# Altium footprint library thermostat.PcbLib: 95 footprints (part 3 of 6)
Each footprint in its own frame and in the unit in brackets; x right, y up, seen from the top. Pads: shape width x height; smd on the part's side, far side on the other; paste and mask are expansions set on the pad; w line width, h text height; cw(c..) or ccw(c..) is an arc to the next point about the centre after c.
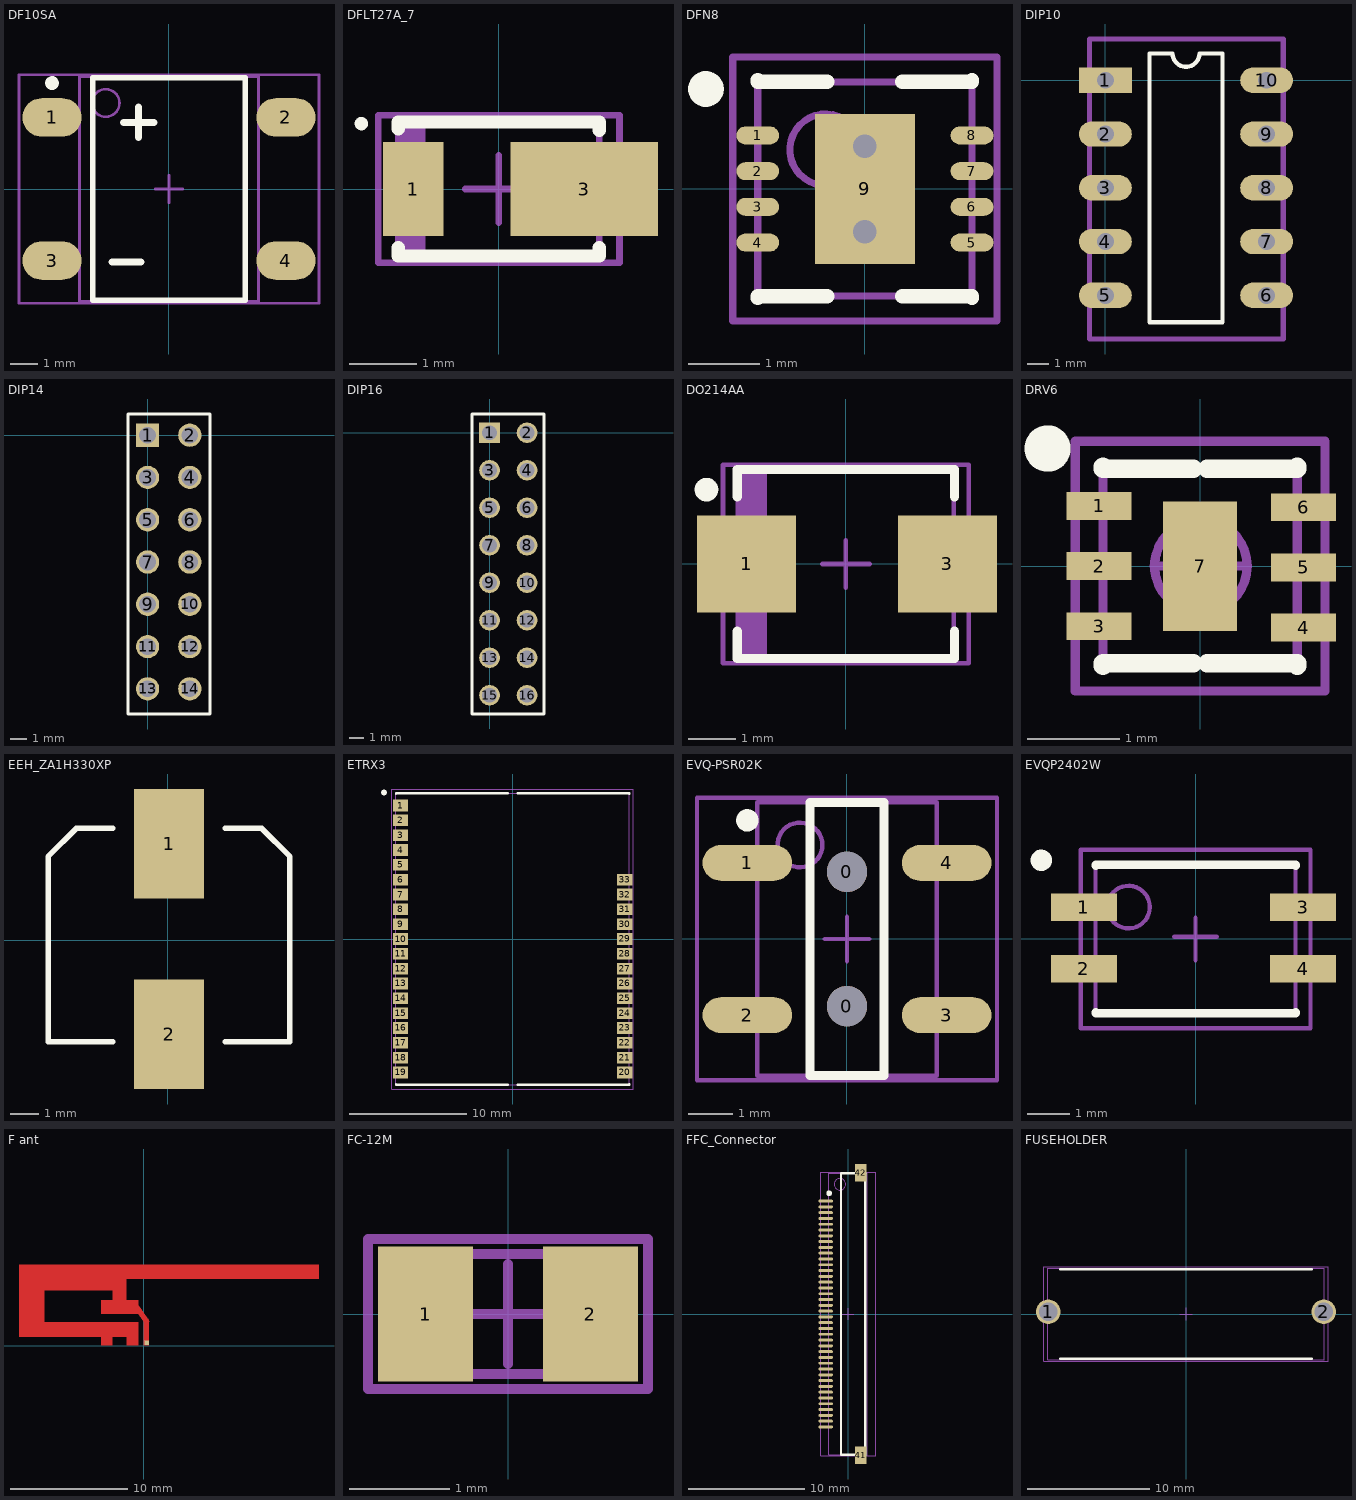
[diagram p2: the footprints below, top view; thin cyan lines are the x and y axes]

## DF10SA [mm] "SOP, 4-Leads, Body 8,1x6,5mm (max), Pitch 5,20mm, IPC High Density"
height 3.3
pads (4):
  oval 2.15x1.4 smd: 1(-4.25,2.6) 2(4.25,2.6) 3(-4.25,-2.6) 4(4.25,-2.6)
Top Overlay:
  circle w0.25: c-4.25,3.85 r0.125
  lines w0.2: -2.775,-4.05 2.775,-4.05 2.775,4.05 -2.775,4.05 -2.775,-4.05
  lines w0.254: -2.075,-2.65 -1.025,-2.65 ; -1.65,2.425 -0.55,2.425 ; -1.1,1.875 -1.1,2.975
Mechanical 13:
  circle w0.1: c-2.3,3.125 r0.5
  lines w0.1: -3.25,-4.075 3.25,-4.075 3.25,4.075 -3.25,4.075 -3.25,-4.075
Mechanical 15:
  lines w0.1: -0.5,0 0.5,0 ; 0,-0.5 0,0.5 ; -5.45,-4.15 5.45,-4.15 5.45,4.15 -5.45,4.15 -5.45,-4.15
3D body: height 3.3, standoff 0.2, extent -3.25,-4.075 3.25,4.075

## DFLT27A_7 [mm] "Molded Diode, 2-Leads, Body 2,8x1,8mm, IPC High Density"
height 1
pads (2):
  rect 0.9x1.4 smd: 1(-1.275,0)
  rect 2.2x1.4 smd: 3(1.275,0)
Top Overlay:
  circle w0.1: c-2.05,0.975 r0.05
  lines w0.2: -1.5,-0.875 -1.5,-1 1.5,-1 1.5,-0.875 ; -1.5,0.9 -1.5,1 1.5,1 1.5,0.875
Mechanical 13:
  rectangle: -1.5,-0.965 -1.097,0.965
  lines w0.1: -1.5,-0.965 -1.5,0.965 1.5,0.965 1.5,-0.965 -1.5,-0.965
Mechanical 15:
  lines w0.1: -0.5,0 0.5,0 ; 0,-0.5 0,0.5 ; -1.8,-1.1 -1.8,1.1 1.8,1.1 1.8,-1.1 -1.8,-1.1
3D body: height 1, standoff 0, extent -1.5,-0.965 1.5,0.965

## DFN8 [mm]
height 0.9
pads (9):
  oval 0.6x0.25 smd: 1(-1.5,0.75) 2(-1.5,0.25) 3(-1.5,-0.25) 4(-1.5,-0.75) 5(1.5,-0.75) 6(1.5,-0.25) 7(1.5,0.25) 8(1.5,0.75)
  rect 1.4x2.1 smd: 9(0,0)
via 0,0.6 diameter 0.66 hole 0.33
via 0,-0.6 diameter 0.66 hole 0.33
Top Overlay:
  circle w0.25: c-2.225,1.4 r0.125
  lines w0.2: -1.5,-1.525 -1.5,-1.5 -0.525,-1.5 ; -1.5,1.525 -1.5,1.5 -0.525,1.5 ; 0.525,-1.5 1.5,-1.5 1.5,-1.525 ; 0.525,1.5 1.5,1.5 1.5,1.525
Mechanical 13:
  circle w0.1: c-0.55,0.55 r0.5
  lines w0.1: -1.5,-1.5 -1.5,1.5 1.5,1.5 1.5,-1.5 -1.5,-1.5
Mechanical 15:
  lines w0.1: -0.5,0 0.5,0 ; 0,-0.5 0,0.5 ; -1.85,-1.85 -1.85,1.85 1.85,1.85 1.85,-1.85 -1.85,-1.85
3D body: height 0.9, standoff 0.1, extent -1.5,-1.5 1.5,1.5

## DIP10 [mm]
pads (10):
  rect 2.5x1.2 hole 0.8: 1(0,0)
  oval 2.5x1.2 hole 0.8: 2(0,-2.54) 3(0,-5.08) 4(0,-7.62) 5(0,-10.16) 6(7.62,-10.16) 7(7.62,-7.62) 8(7.62,-5.08) 9(7.62,-2.54) 10(7.62,0)
Top Overlay:
  lines w0.2: 2.085,-11.43 5.535,-11.43 5.535,1.27 4.445,1.27 cw(c3.81,1.27) 3.175,1.27 2.085,1.27 2.085,-11.43
Mechanical 15:
  lines w0.254: 8.375,-12.225 -0.75,-12.225 -0.75,1.95 8.4,1.95 8.4,-12.225
3D body: height 5, standoff 0.1, extent -0.75,-12.225 8.4,1.95

## DIP14 [mm]
height 8
pads (14):
  rect 1.4x1.4 hole 1: 1(0,0)
  round 1.4 hole 1: 2(2.54,0) 3(0,-2.54) 4(2.54,-2.54) 5(0,-5.08) 6(2.54,-5.08) 7(0,-7.62) 8(2.54,-7.62) 9(0,-10.16) 10(2.54,-10.16) 11(0,-12.7) 12(2.54,-12.7) 13(0,-15.24) 14(2.54,-15.24)
Top Overlay:
  lines w0.2: 0.635,1.27 3.75,1.27 3.75,-16.75 -1.175,-16.75 -1.175,1.27 1.905,1.27
3D body: height 8.64, standoff 0.1, extent -0.744,-16.35 3.25,1

## DIP16 [mm]
height 8
pads (16):
  rect 1.4x1.4 hole 1: 1(0,0)
  round 1.4 hole 1: 2(2.54,0) 3(0,-2.54) 4(2.54,-2.54) 5(0,-5.08) 6(2.54,-5.08) 7(0,-7.62) 8(2.54,-7.62) 9(0,-10.16) 10(2.54,-10.16) 11(0,-12.7) 12(2.54,-12.7) 13(0,-15.24) 14(2.54,-15.24) 15(0,-17.78) 16(2.54,-17.78)
Top Overlay:
  lines w0.2: 0.635,1.27 3.675,1.27 3.675,-19.05 -1.175,-19.05 -1.175,1.27 1.905,1.27
3D body: height 8.64, standoff 0.1, extent -0.75,-18.75 3.25,1

## DO214AA [mm] "Molded Diode, 2-Leads, Body 4,3x3,6mm, IPC High Density"
height 2.44
pads (2):
  rect 2.1x2.05 smd: 1(-2.1,0) 3(2.15,0)
Top Overlay:
  circle w0.25: c-2.95,1.575 r0.125
  lines w0.2: -2.3,-1.425 -2.3,-2 2.3,-2 2.3,-1.425 ; -2.3,1.425 -2.3,2 2.3,2 2.3,1.425
Mechanical 13:
  rectangle: -2.285,-1.97 -1.67,1.97
  lines w0.1: -2.285,-1.97 -2.285,1.97 2.285,1.97 2.285,-1.97 -2.285,-1.97
Mechanical 15:
  lines w0.1: -0.5,0 0.5,0 ; 0,-0.5 0,0.5 ; -2.6,-2.1 -2.6,2.1 2.6,2.1 2.6,-2.1 -2.6,-2.1
3D body: height 2.44, standoff 0, extent -2.285,-1.97 2.285,1.97

## DRV6 [mm] "DRV6, 6-Leads, Body 2,1x2,1mm (max), Pitch 0,65mm, IPC High Density"
height 0.8
pads (7):
  rect 0.7x0.3 smd: 1(-1.092,0.65) 2(-1.092,0) 3(-1.092,-0.65) 4(1.118,-0.665) 5(1.118,-0.015) 6(1.118,0.635)
  rect 0.8x1.4 smd: 7(0,0)
Top Overlay:
  circle w0.25: c-1.649,1.27 r0.125
  lines w0.2: -1.05,-1.075 -1.05,-1.05 -0.075,-1.05 ; -1.05,1.075 -1.05,1.05 -0.075,1.05 ; 0.075,-1.05 1.05,-1.05 1.05,-1.075 ; 0.075,1.05 1.05,1.05 1.05,1.075
Mechanical 13:
  circle w0.1: c0.008,0 r0.5
  lines w0.1: -1.05,-1.05 -1.05,1.05 1.05,1.05 1.05,-1.05 -1.05,-1.05
Mechanical 15:
  lines w0.1: -0.5,0 0.5,0 ; 0,-0.5 0,0.5 ; -1.35,-1.35 -1.35,1.35 1.35,1.35 1.35,-1.35 -1.35,-1.35
3D body: height 0.8, standoff 0.01, extent -1.05,-1.05 1.05,1.05

## EEH_ZA1H330XP [mm] "CAP ALUM 33UF 50V 20% SMD"
height 8
pads (2):
  rect 2.5x3.9 smd: 1(0.05,3.425) 2(0.05,-3.35)
Top Overlay:
  lines w0.2: -1.95,-3.625 -4.25,-3.625 -4.25,2.975 ; -1.95,3.975 -3.25,3.975 -4.25,2.975 ; 2.05,-3.625 4.35,-3.625 4.35,2.975 ; 2.05,3.975 3.35,3.975 4.35,2.975 ; -4.25,2.975 -4.25,2.975 ; 4.35,2.975 4.35,2.975
3D body: height 10.3, standoff -0.2, extent -4.2,-4.773 4.3,4.927

## ETRX3 [mm] "ETRX3, 38-Leads, Body 25,0x20,0mm (max), Pitch 1,27mm, IPC High Density"
height 6
pads (33):
  rect 1.3x1 smd: 1(-9.6,11.43) 2(-9.6,10.16) 3(-9.6,8.89) 4(-9.6,7.62) 5(-9.6,6.35) 6(-9.6,5.08) 7(-9.6,3.81) 8(-9.6,2.54) 9(-9.6,1.27) 10(-9.6,0) 11(-9.6,-1.27) 12(-9.6,-2.54) 13(-9.6,-3.81) 14(-9.6,-5.08) 15(-9.6,-6.35) 16(-9.6,-7.62) 17(-9.6,-8.89) 18(-9.6,-10.16) 19(-9.6,-11.43) 20(9.6,-11.43) 21(9.6,-10.16) 22(9.6,-8.89) 23(9.6,-7.62) 24(9.6,-6.35) 25(9.6,-5.08) 26(9.6,-3.81) 27(9.6,-2.54) 28(9.6,-1.27) 29(9.6,0) 30(9.6,1.27) 31(9.6,2.54) 32(9.6,3.81) 33(9.6,5.08)
Top Overlay:
  circle w0.25: c-11.025,12.55 r0.125
  lines w0.2: -10,-12.425 -10,-12.5 -0.425,-12.5 ; -10,12.425 -10,12.5 -0.425,12.5 ; 0.425,-12.5 10,-12.5 10,-12.425 ; 0.425,12.5 10,12.5 10,12.425
Mechanical 13:
  lines w0.1: -10,-12.5 10,-12.5 10,12.5 -10,12.5 -10,-12.5
Mechanical 15:
  lines w0.1: -10.35,-12.85 10.35,-12.85 10.35,12.85 -10.35,12.85 -10.35,-12.85
3D body: height 6, standoff 0.1, extent -10,-12.5 10,12.5

## EVQ-PSR02K [mm] "SWITCH TACTILE SPST-NO 0.05A 12V"
height 1.8
pads (6):
  round 0.9 hole 0.9: 0(0,-1.5) 0(0,1.5)
  oval 2x0.8 smd: 1(-2.225,1.7) 2(-2.225,-1.7) 3(2.225,-1.7) 4(2.225,1.7)
Top Overlay:
  circle w0.25: c-2.225,2.65 r0.125
  lines w0.2: -0.825,-3.05 -0.825,3.05 0.825,3.05 0.825,-3.05 -0.825,-3.05
Mechanical 13:
  circle w0.1: c-1.05,2.1 r0.5
  lines w0.1: -2,-3.05 -2,3.05 2,3.05 2,-3.05 -2,-3.05
Mechanical 15:
  lines w0.1: -0.5,0 0.5,0 ; 0,-0.5 0,0.5 ; -3.35,-3.15 -3.35,3.15 3.35,3.15 3.35,-3.15 -3.35,-3.15
3D body: height 1.8, standoff 0.2, extent -2,-3.05 2,3.05

## EVQP2402W [mm] "QFN, 4-Leads, Body 3,5x4,7mm (max), Pitch 1,70mm, IPC High Density"
height 2.5
pads (4):
  rect 1.55x0.65 smd: 1(-2.625,0.75) 2(-2.625,-0.7) 3(2.525,0.75) 4(2.525,-0.7)
Top Overlay:
  circle w0.25: c-3.625,1.85 r0.125
  lines w0.2: -2.35,-1.725 -2.35,-1.75 0.275,-1.75 ; -2.35,1.725 -2.35,1.75 0.275,1.75 ; -0.275,-1.75 2.35,-1.75 2.35,-1.725 ; -0.275,1.75 2.35,1.75 2.35,1.725
Mechanical 13:
  circle w0.1: c-1.575,0.75 r0.5
  lines w0.1: -2.35,-1.75 2.35,-1.75 2.35,1.75 -2.35,1.75 -2.35,-1.75
Mechanical 15:
  lines w0.1: -0.5,0.05 0.5,0.05 ; 0,-0.5 0,0.5 ; -2.7,-2.1 2.7,-2.1 2.7,2.1 -2.7,2.1 -2.7,-2.1
3D body: height 2.5, standoff 0.1, extent -2.35,-1.75 2.35,1.75

## F ant [mm] "F antenna 2.4Ghz"
pads (2):
  rect 0.4x0.4 smd paste+0: 1(0.254,0.254)
  rect 3x0.01 smd: 2(-2.032,0)
Top Layer:
  region: 0,2.03 0.379,2.291 -0.577,3.681 -0.956,3.421
  rectangle: 0,0 0.46,2.03
  rectangle: -3.65,0.74 -0.45,2.03
  rectangle: -3.65,2.69 -0.45,3.9
  rectangle: -10.63,0.74 -8.45,4.7
  rectangle: -10.63,5.7 14.95,6.91
  rectangle: -10.63,4.7 -1.45,5.7
  rectangle: -8.45,0.74 -3.575,2.03
  rectangle: -2.65,3.9 -1.45,4.7
  rectangle: -1.45,0 -0.45,0.74
  rectangle: -3.65,0 -2.65,0.74
  region: 0,2.03 0.46,2.03 0.379,2.291

## FC-12M [mm]
height 0.6
pads (2):
  rect 0.95x1.35 smd: 1(-0.825,0) 2(0.825,0)
Mechanical 13:
  lines w0.1: -1.025,-0.6 1.025,-0.6 1.025,0.6 -1.025,0.6 -1.025,-0.6
Mechanical 15:
  lines w0.1: -0.5,0 0.5,0 ; 0,-0.5 0,0.5 ; -1.4,-0.75 1.4,-0.75 1.4,0.75 -1.4,0.75 -1.4,-0.75
3D body: height 0.6, standoff 0, extent -1.025,-0.6 1.025,0.6

## FFC_Connector [mm] "FFC Connector"
height 1.8
pads (42):
  oval 1.25x0.25 smd: 1(-1.925,9.75) 2(-1.925,9.25) 3(-1.925,8.75) 4(-1.925,8.25) 5(-1.925,7.75) 6(-1.925,7.25) 7(-1.925,6.75) 8(-1.925,6.25) 9(-1.925,5.75) 10(-1.925,5.25) 11(-1.925,4.75) 12(-1.925,4.25) 13(-1.925,3.75) 14(-1.925,3.25) 15(-1.925,2.75) 16(-1.925,2.25) 17(-1.925,1.75) 18(-1.925,1.25) 19(-1.925,0.75) 20(-1.925,0.25) 21(-1.925,-0.25) 22(-1.925,-0.75) 23(-1.925,-1.25) 24(-1.925,-1.75) 25(-1.925,-2.25) 26(-1.925,-2.75) 27(-1.925,-3.25) 28(-1.925,-3.75) 29(-1.925,-4.25) 30(-1.925,-4.75) 31(-1.925,-5.25) 32(-1.925,-5.75) 33(-1.925,-6.25) 34(-1.925,-6.75) 35(-1.925,-7.25) 36(-1.925,-7.75) 37(-1.925,-8.25) 38(-1.925,-8.75) 39(-1.925,-9.25) 40(-1.925,-9.75)
  rect 1x1.5 smd: 41(1.1,-12.2) 42(1.1,12.2)
Top Overlay:
  circle w0.25: c-1.625,10.425 r0.125
  lines w0.2: -0.6,-12.15 1.5,-12.15 1.5,12.15 -0.6,12.15 -0.6,-12.15
Mechanical 13:
  circle w0.1: c-0.7,11.2 r0.5
  lines w0.1: -1.65,-12.15 1.65,-12.15 1.65,12.15 -1.65,12.15 -1.65,-12.15
Mechanical 15:
  lines w0.1: -0.5,0 0.5,0 ; 0,-0.5 0,0.5 ; -2.375,-12.25 2.375,-12.25 2.375,12.25 -2.375,12.25 -2.375,-12.25
3D body: height 1.8, standoff 0.2, extent -1.65,-12.15 1.65,12.15

## FUSEHOLDER [mm] "Chip Resistor, 2-Leads, Body 22,6x7,5mm, IPC High Density"
height 12
pads (2):
  round 2 hole 1.5: 1(-11.275,0.175) 2(11.275,0.175)
Top Overlay:
  lines w0.2: -10.3,-3.675 10.3,-3.675 ; -10.3,3.675 10.3,3.675
Mechanical 13:
  lines w0.1: -11.3,-3.75 -11.3,3.75 11.3,3.75 11.3,-3.75 -11.3,-3.75
Mechanical 15:
  lines w0.1: -0.5,0 0.5,0 ; 0,-0.5 0,0.5 ; -11.625,-3.875 -11.625,3.875 11.625,3.875 11.625,-3.875 -11.625,-3.875
3D body: height 12, standoff 0, extent -11.3,-3.75 11.3,3.75